# EAGLE library part CORTEX_SWD (library TuesdayR3)
.05" Cortex M Connector in SWD mode Manufacturer: Generic Part Number: Cortex M SWD Notes: I use Harwin M50-3600542 connectors
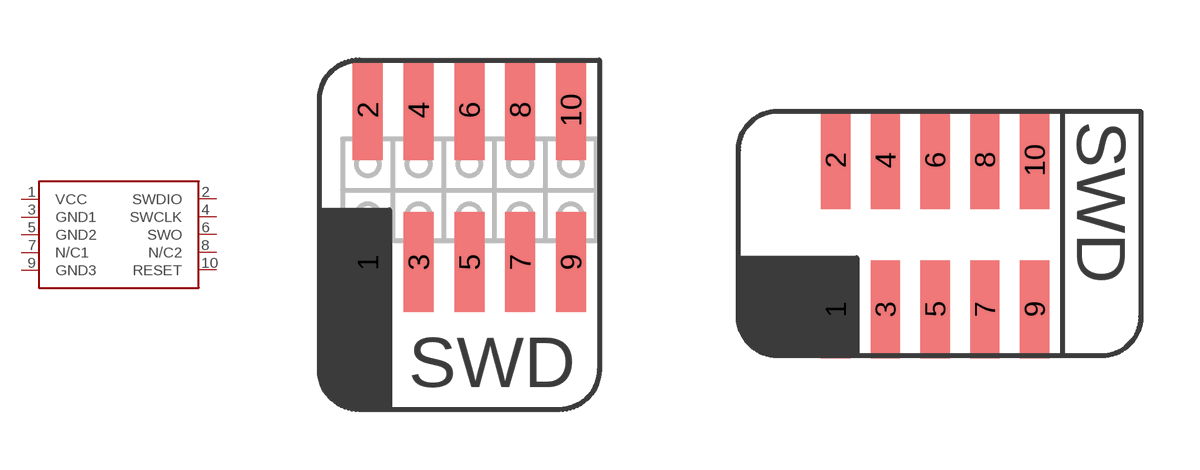
[diagram p5: symbol with the pads of M50-3600542; footprints M50-3600542, SWD_VERTICAL]

Designator prefix SWD

## CORTEX_SWD  [M50-3600542]
1  VCC
2  SWDIO
3  GND1
4  SWCLK
5  GND2
6  SWO
7  N/C1
8  N/C2
9  GND3
10  RESET

## CORTEX_SWDVERT  [SWD_VERTICAL]
Pads as for M50-3600542

## CORTEX_SWDVERT_HOLE  [SWD_VERTICAL_WITHHOLE]
Pads as for M50-3600542

## Footprint M50-3600542 (pad centres in mm)
.05" x 5, 2 Row
smd 0.75 x 2.5: 1 -2.54,-1.81; 2 -2.54,2; 3 -1.27,-1.81; 4 -1.27,2; 5 0,-1.81; 6 0,2; 7 1.27,-1.81; 8 1.27,2; 9 2.54,-1.81; 10 2.54,2

## Footprint SWD_VERTICAL (pad centres in mm)
smd 0.75 x 2.5: 1 -2.54,-1.81; 2 -2.54,2; 3 -1.27,-1.81; 4 -1.27,2; 5 0,-1.81; 6 0,2; 7 1.27,-1.81; 8 1.27,2; 9 2.54,-1.81; 10 2.54,2

## Footprint SWD_VERTICAL_WITHHOLE (pad centres in mm)
smd 0.75 x 2.5: 1 -2.54,-1.905; 2 -2.54,1.905; 3 -1.27,-1.905; 4 -1.27,1.905; 5 0,-1.905; 6 0,1.905; 7 1.27,-1.905; 8 1.27,1.905; 9 2.54,-1.905; 10 2.54,1.905